# Altium integrated library Flex_Bridge_SW.IntLib: 2 symbols
Pins are listed as number, name and electrical type; pins without a type are passive.

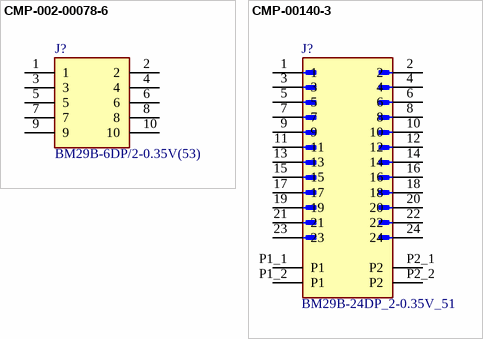
[diagram p0: symbols CMP-002-00078-6 to CMP-00140-3]

## CMP-002-00078-6
designator J?, comment BM29B-6DP/2-0.35V(53)
Ultra-Small, Power & Signal Hybrid, Board to Board / FPC to Board with 3A Max.; Manufacturer: HIROSE ELECTRIC; Manufacturer Part Number: BM29B-6DP/2-0.35V(51); Component Type: Connectors
footprint BM29B-6DP_2-0.35V(53)-Footprint-1
pins: 1, 2, 3, 4, 5, 6, 7, 8, 9, 10

## CMP-00140-3
designator J?, comment BM29B-24DP_2-0.35V_51
Ultra-small, power/signal contact design for Board-to-Board/FPC-to-Board providing 3A max current; Manufacturer: HIROSE ELECTRIC; Manufacturer Part Number: BM29B-24DP/2-0.35V(51); Component Type: Connectors
footprint New footprint 1
pins: 1, 2, 3, 4, 5, 6, 7, 8, 9, 10, 11, 12, 13, 14, 15, 16, 17, 18, 19, 20, 21, 22, 23, 24, P1_1 P1 (power), P1_2 P1 (power), P2_1 P2 (power), P2_2 P2 (power)